# Altium schematic symbol library connectors.SchLib: 47 symbols
Pins are listed as number, name and electrical type; pins without a type are passive.

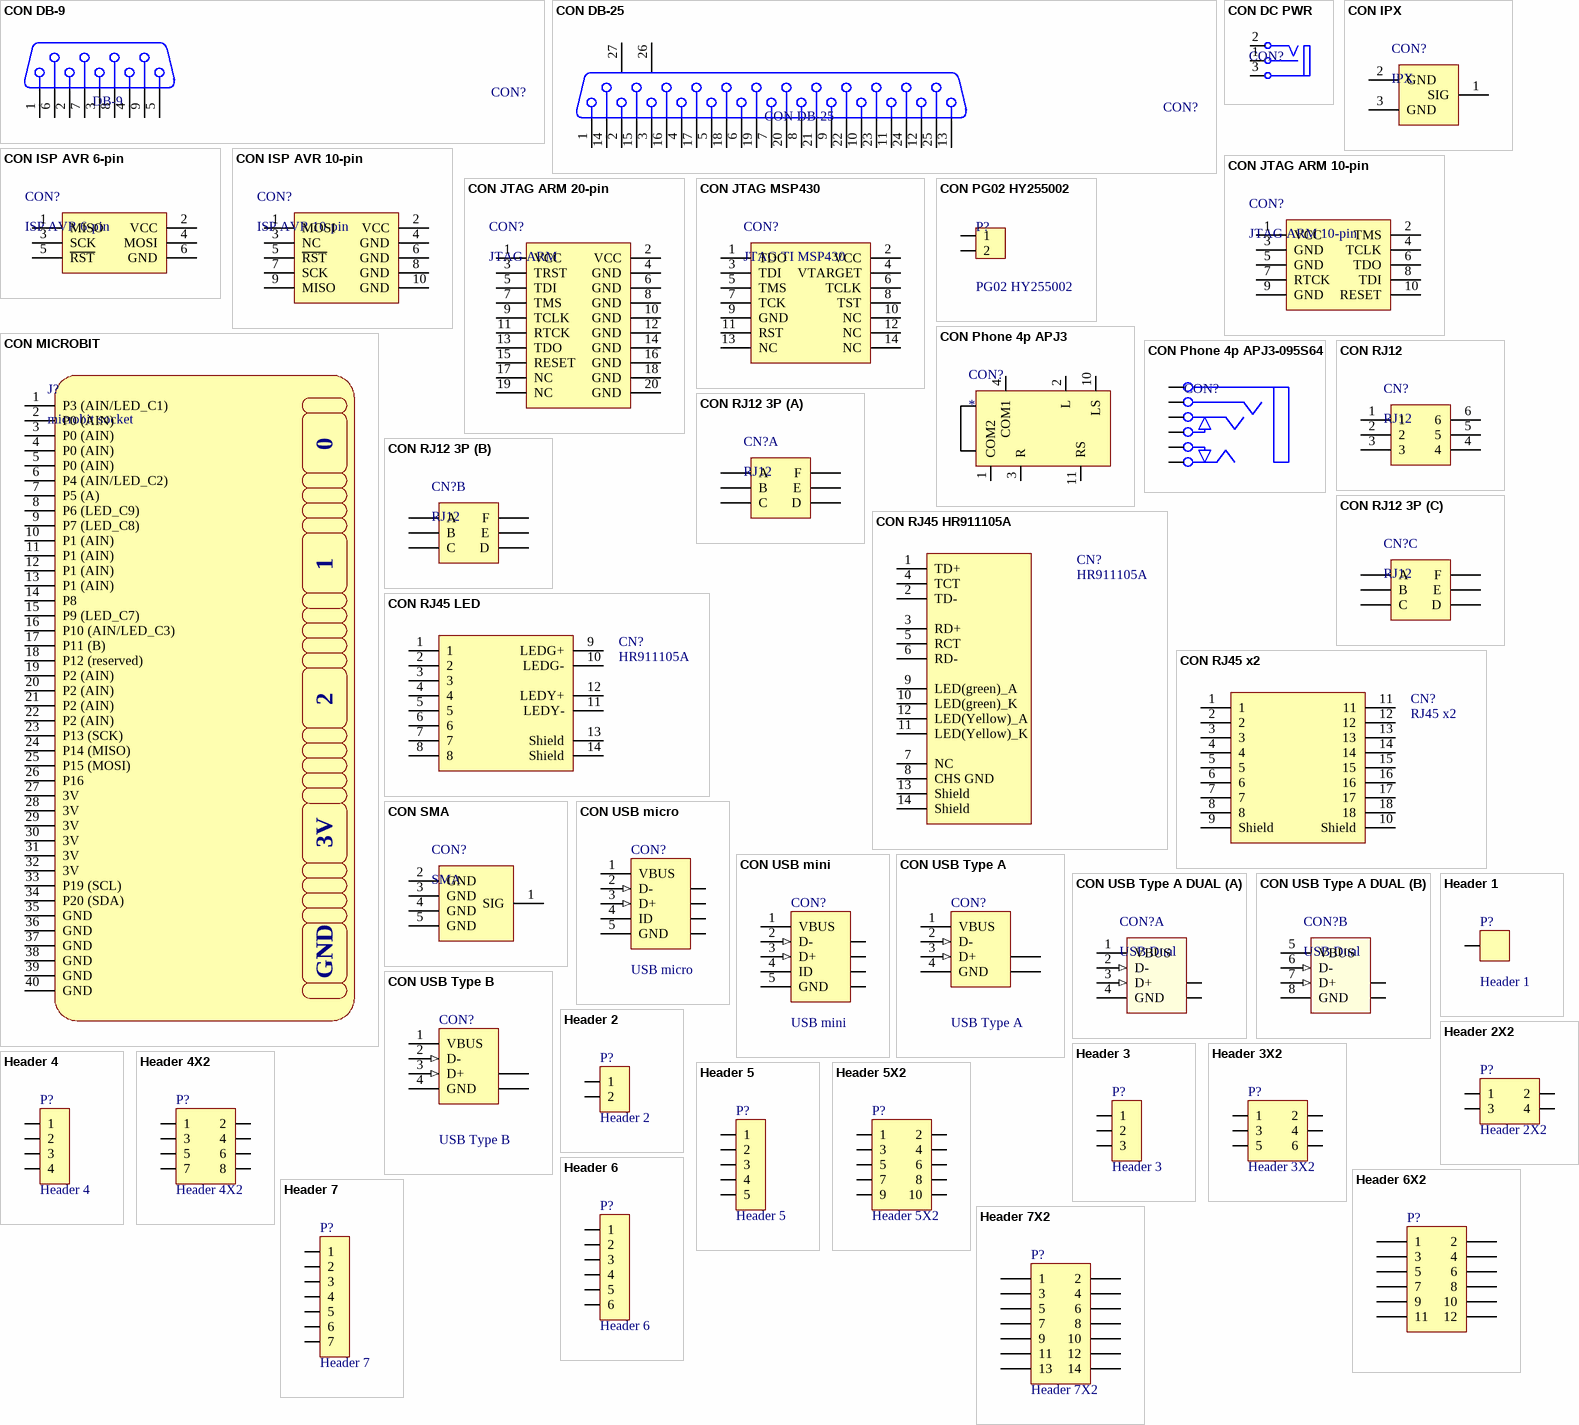
[diagram p0: symbols CON DB-9 to Header 7X2]

## CON DB-9
designator CON?, comment DB-9
Connector D-Sub 9
footprint CONN/DB9/FEMALE
pins: 1, 2, 3, 4, 5, 6, 7, 8, 9

## CON DB-25
designator CON?
Connector D-Sub 25
footprint CONN/DB25/Female (LPT FMALE - D Subminiature; 25 Position; Right Angle; Pitch 1.385 mm)
footprint CONN/DB25/Male (LPT MALE D Subminiature; 25 Position; Right Angle; Pitch 1.385 mm)
pins: 1, 2, 3, 4, 5, 6, 7, 8, 9, 10, 11, 12, 13, 14, 15, 16, 17, 18, 19, 20, 21, 22, 23, 24, 25, 26 MH1, 27 MH2

## CON DC PWR
designator CON?
DC input connector
footprint CONN/DC/PWR/3.5mm
footprint CONN/DC/PWR/5.0MM
pins: 1 S (power) "Sleeve (Ground)", 2 T "Tip Normal (Break Contact)", 3 TN "Tip"

## CON IPX
designator CON?, comment IPX
footprint CONN/IPX/SMD
pins: 1 SIG, 2 GND, 3 GND

## CON ISP AVR 6-pin
designator CON?, comment ISP AVR 6-pin
ISP AVR 6-pin interface
footprint HDR/Header/6/DL
footprint HDR/Header/6/DL/2mm
footprint HDR/Header/6/DL/BOX
footprint HDR/Header/6/DL/Box/RA
footprint HDR/Header/6/DL/BOX/TR
pins: 1 MISO, 2 VCC, 3 SCK, 4 MOSI, 5 ~{RST}, 6 GND

## CON ISP AVR 10-pin
designator CON?, comment ISP AVR 10-pin
ISP AVR 10-pin interface
footprint HDR/Header/10/DL/BOX (10 pins Male Box Header, IDC Socket)
footprint HDR/Header/10/DL/BOX/RA (10 pins Male Box Header right angle, IDC Socket)
pins: 1 MOSI, 2 VCC, 3 NC, 4 GND, 5 ~{RST}, 6 GND, 7 SCK, 8 GND, 9 MISO, 10 GND

## CON JTAG ARM 10-pin
designator CON?, comment JTAG ARM 10-pin
JTAG ARM 10-pin interface
footprint HDR/Header/10/DL/BOX (10 pins Male Box Header, IDC Socket)
footprint HDR/Header/10/DL/BOX/RA (10 pins Male Box Header right angle, IDC Socket)
pins: 1 VCC, 2 TMS, 3 GND, 4 TCLK, 5 GND, 6 TDO, 7 RTCK, 8 TDI, 9 GND, 10 RESET

## CON JTAG ARM 20-pin
designator CON?, comment JTAG ARM
JTAG ARM 20-pin interface
footprint HDR/Header/20/DL/BOX (20 pins Male Box Header, IDC Socket)
footprint HDR/Header/20/DL/BOX/RA (20 pins Male Box Header, IDC Socket)
pins: 1 VCC, 2 VCC, 3 TRST, 4 GND, 5 TDI, 6 GND, 7 TMS, 8 GND, 9 TCLK, 10 GND, 11 RTCK, 12 GND, 13 TDO, 14 GND, 15 RESET, 16 GND, 17 NC, 18 GND, 19 NC, 20 GND

## CON JTAG MSP430
designator CON?, comment JTAG TI MSP430
JTAG TI 14 pins for DSPs, MSPs
footprint HDR/Header/14/DL/BOX (14 pins Male Box Header, IDC Socket)
pins: 1 TDO, 2 VCC, 3 TDI, 4 VTARGET, 5 TMS, 6 TCLK, 7 TCK, 8 TST, 9 GND, 10 NC, 11 RST, 12 NC, 13 NC, 14 NC

## CON MICROBIT
designator J?, comment microbit socket
microbit socket 40 pins
footprint CONN/MIC127-140-A01
footprint CONN/MIC127-140-001
pins: 1 P3 (AIN/LED_C1), 2 P0 (AIN), 3 P0 (AIN), 4 P0 (AIN), 5 P0 (AIN), 6 P4 (AIN/LED_C2), 7 P5 (A), 8 P6 (LED_C9), 9 P7 (LED_C8), 10 P1 (AIN), 11 P1 (AIN), 12 P1 (AIN), 13 P1 (AIN), 14 P8, 15 P9 (LED_C7), 16 P10 (AIN/LED_C3), 17 P11 (B), 18 P12 (reserved), 19 P2 (AIN), 20 P2 (AIN), 21 P2 (AIN), 22 P2 (AIN), 23 P13 (SCK), 24 P14 (MISO), 25 P15 (MOSI), 26 P16, 27 3V, 28 3V, 29 3V, 30 3V, 31 3V, 32 3V, 33 P19 (SCL), 34 P20 (SDA), 35 GND, 36 GND, 37 GND, 38 GND, 39 GND, 40 GND
text: 0

## CON PG02 HY255002
designator P?, comment PG02 HY255002
Pogo 2-pin pitch 3.0 SMD
footprint CONN/HY255002
pins: 1, 2

## CON Phone 4p APJ3
designator CON?
Connector Stereo Phone 4 poles
footprint CONN/Phone/4P/SMD
pins: 1 COM2, 2 L, 3 R, 4 COM1, 10 LS, 11 RS

## CON Phone 4p APJ3-095S64
designator CON?, comment Phone Jack 4-pole APJ3-095S64  (value not drawn)
footprint CONN/Phone/4P/SMD
pins: 1, 2, 3, 4, 10, 11

## CON RJ12
designator CN?, comment RJ12
footprint CONN/RJ12
pins: 1, 2, 3, 4, 5, 6

## CON RJ12 3P
designator CN?, comment RJ12
footprint CONN/RJ12/3P
part A pins: 1 A, 2 B, 3 C, 4 D, 5 E, 6 F
part B pins: 7 A, 8 B, 9 C, 10 D, 11 E, 12 F
part C pins: 13 A, 14 B, 15 C, 16 D, 17 E, 18 F

## CON RJ45 HR911105A
designator CN?, comment HR911105A
Connector RJ45 HR911105A
footprint CONN/RJ45/HR911105A
pins: 1 TD+, 2 TD-, 3 RD+, 4 TCT, 5 RCT, 6 RD-, 7 NC, 8 CHS GND, 9 LED(green)_A, 10 LED(green)_K, 11 LED(Yellow)_K, 12 LED(Yellow)_A, 13 Shield, 14 Shield

## CON RJ45 LED
designator CN?, comment HR911105A
Connector RJ45 HR911105A
footprint CONN/RJ45/LED
pins: 1, 2, 3, 4, 5, 6, 7, 8, 9 LEDG+, 10 LEDG-, 11 LEDY-, 12 LEDY+, 13 Shield, 14 Shield

## CON RJ45 x2
designator CN?, comment RJ45 x2
Connector RJ45 X2
footprint CONN/RJ45/x2
pins: 1, 2, 3, 4, 5, 6, 7, 8, 9 Shield, 10 Shield, 11, 12, 13, 14, 15, 16, 17, 18

## CON SMA
designator CON?, comment SMA
SMA connectors
footprint CONN/SMA (Connector; RF Coaxial, MCX, Thru-Hole; 5 Position; Right Angle)
footprint CONN/SMA/EdgePCB (Connector; RF Coaxial, MCX, Thru-Hole; 5 Position; Right Angle)
footprint CONN/SMA/RA (Connector; RF Coaxial, MCX, Thru-Hole; 5 Position; Right Angle)
pins: 1 SIG, 2 GND, 3 GND, 4 GND, 5 GND

## CON USB micro
designator CON?, comment USB micro
USB micro, 5 pins
footprint CONN/USB/MICRO/RA
footprint CONN/USB/MICRO/RA/H
pins: 1 VBUS (power) "Power", 2 D- (in) "-DATA", 3 D+ (in) "+DATA", 4 ID, 5 GND (power) "Ground", 6 SHLD "Shield", 7 SHLD "Shield", 8 SHLD "Shield", 9 SHLD "Shield"

## CON USB mini
designator CON?, comment USB mini
USB mini type B, 5 pins
footprint CONN/USB/Mini/DIP/RA (Connector; USB2.0, Type B, SM; 5 Position; Right Angle)
footprint CONN/USB/Mini/SMD/RA (Connector; USB2.0, Type B, SM; 5 Position; Right Angle)
pins: 1 VBUS (power) "Power", 2 D- (in) "-DATA", 3 D+ (in) "+DATA", 4 ID, 5 GND (power) "Ground", 6 SHLD "Shield", 7 SHLD "Shield", 8 SHLD "Shield", 9 SHLD "Shield"

## CON USB Type A
designator CON?, comment USB Type A
USB type A, 4 pins
footprint CONN/USB/A/FEMALE/RA
footprint CONN/USB/A/MALE/RA
pins: 1 VBUS (power) "Power", 2 D- (in) "-DATA", 3 D+ (in) "+DATA", 4 GND (power) "Ground", 5 SHLD "Shield", 6 SHLD "Shield"

## CON USB Type A DUAL
designator CON?, comment USB Dual
CONN USB 2.0 R/A DL FMALE TYPE A; PART NO: AU-Y1008-2-R; BRAND: Assmann WSW Components; PACKAGE: CONN USB 2.0 R/A DL FMALE TYPE A; STOCK CODE: AE10334-ND; SUPPLIER: Digi-Key; TYPE: MI
footprint CONN/USB/A/FMALE/DL/RA (USB 2.0 R/A Dual FMALE TYPE A)
part A pins: 1 VBUS, 2 D- (in), 3 D+ (in), 4 GND, 9 SHLD, 10 SHLD
part B pins: 5 VBUS, 6 D- (in), 7 D+ (in), 8 GND, 11 SHLD, 12 SHLD

## CON USB Type B
designator CON?, comment USB Type B
USB type B, 4 pins
footprint CONN/USB/B/RA
pins: 1 VBUS (power) "Power", 2 D- (in) "-DATA", 3 D+ (in) "+DATA", 4 GND (power) "Ground", 5 SHLD "Shield", 6 SHLD "Shield"

## Header 1
designator P?
Header, 1-Pin
footprint HDR/Header/1
footprint HDR/Terminal/1 (Header 1, 1 pin, hight 300mil, Pin to Pin 200, Colour Green)
footprint HDR/Terminal/1/copper/6.0 (Header 1, 1 pin,)
footprint HDR/Terminal/1/copper/9.0 (Header 1, 1 pin,)
footprint HDR/Terminal/1/copper/8.8 (Header 1, 1 pin,)
footprint HDR/Terminal/1/copper/7.5 (Header 1, 1 pin,)
footprint HDR/Terminal/1/screw
pins: 1

## Header 2
designator P?
Header, 2-Pin
footprint HDR/Header/2
footprint HDR/Header/2/2mm
footprint HDR/Header/2/BOX
footprint HDR/Terminal/2 (Header 2, 2 pin, hight 400mil, Pin to Pin 200mil, Colour Green)
footprint HDR/Terminal/2/4mm
footprint HDR/Terminal/2/5mm (Header 2, 2 pin, hight 400mil, Pin to Pin 200mil, Colour Green)
footprint HDR/Terminal/2/5mm/RA (Header 2, 2 pin, hight 300mil, Pin to Pin 200, Colour Green)
footprint HDR/Terminal/2/300
footprint HDR/Terminal/2/400
footprint HDR/Terminal/2/RA (Header 2, 2 pin, hight 300mil, Pin to Pin 200, Colour Green)
footprint HDR/Terminal/2/3.5mm
footprint HDR/Header/2/VH
footprint HDR/Header/2/2mm/BOX/SMD
footprint HDR/Terminal/2/KF1000
footprint HDR/Terminal/2/KF55C-10
footprint HDR/Terminal/2/ELT950 (ELT950-9.5mm-2P)
footprint HDR/Header/2/BOX/RED
pins: 1, 2

## Header 2X2
designator P?
Header, 2-Pin, Dual row
footprint HDR/Header/4/DL
footprint HDR/5569-4.2/4/DL/RA (Header 6, 6 pin, hight 300mil, Pin to Pin 200, Colour Green)
pins: 1, 2, 3, 4

## Header 3
designator P?
Header, 3-Pin
footprint HDR/Header/3
footprint HDR/Header/3/2mm
footprint HDR/Header/3/BOX
footprint HDR/Terminal/3
footprint HDR/Terminal/3/4mm
footprint HDR/Terminal/3/400
footprint HDR/Terminal/3/RA (Header 3, 3 pin, hight 300mil, Pin to Pin 200, Colour Green)
footprint HDR/Header/3/VH
footprint HDR/Header/3/black
footprint HDR/Header/3/red
footprint HDR/Header/3/yellow
footprint HDR/Header/3/c1
pins: 1, 2, 3

## Header 3X2
designator P?
Header, 3-Pin, Dual row
footprint HDR/Header/6/DL
footprint HDR/Header/6/DL/BOX
footprint HDR/Header/6/DL/Box/RA
footprint HDR/Header/6/DL/BOX/TR
footprint HDR/Header/6/DL/2mm
footprint HDR/5569-4.2/6/DL/RA (Header 6, 6 pin, hight 300mil, Pin to Pin 200, Colour Green)
pins: 1, 2, 3, 4, 5, 6

## Header 4
designator P?
Header, 4-Pin
footprint HDR/Header/4
footprint HDR/Header/4/2mm
footprint HDR/Header/4/BOX
footprint HDR/Terminal/4
footprint HDR/Terminal/4/RA (Header 4, 4 pin, hight 300mil, Pin to Pin 200, Colour Green)
footprint HDR/Header/4/BOX/SMD
footprint HDR/Header/4/2mm/BOX/SMD
footprint HDR/Header/4/VH
footprint HDR/Header/4/2mm/BOX
footprint HDR/Header/4/2mm/BOX/RA
footprint HDR/Header/4/BOX/RA
footprint HDR/Header/4/BOX/RED
footprint HDR/Header/4/BOX/WHITE
footprint HDR/HW4-SMD-2-0
footprint HDR/HW4-SMD-2-0-90D
pins: 1, 2, 3, 4

## Header 4X2
designator P?
Header, 4-Pin, Dual row
footprint HDR/Header/8/DL
footprint HDR/Header/8/DL/SMD
footprint HDR/5569-4.2/8/DL/RA (Header 6, 6 pin, hight 300mil, Pin to Pin 200, Colour Green)
pins: 1, 2, 3, 4, 5, 6, 7, 8

## Header 5
designator P?
Header, 5-Pin
footprint HDR/Header/5
footprint HDR/Header/5/2mm
footprint HDR/Header/5/BOX
footprint HDR/Terminal/5/RA
footprint HDR/Header/5/VH
pins: 1, 2, 3, 4, 5

## Header 5X2
designator P?
Header, 5-Pin, Dual row
footprint HDR/Header/10/DL
footprint HDR/Header/10/DL/BOX (10 pins Male Box Header, IDC Socket)
footprint HDR/Header/10/DL/BOX/RA (10 pins Male Box Header right angle, IDC Socket)
footprint HDR/5569-4.2/10/DL/RA (Header 6, 6 pin, hight 300mil, Pin to Pin 200, Colour Green)
pins: 1, 2, 3, 4, 5, 6, 7, 8, 9, 10

## Header 6
designator P?
Header, 6-Pin
footprint HDR/Header/6
footprint HDR/Header/6/2mm
footprint HDR/Header/6/BOX
footprint HDR/Terminal/6
footprint HDR/TERMINAL/6/375
footprint HDR/Terminal/6/RA (Header 6, 6 pin, hight 300mil, Pin to Pin 200, Colour Green)
footprint HDR/Header/6/VH
pins: 1, 2, 3, 4, 5, 6

## Header 6X2
designator P?
Header, 6-Pin, Dual row
footprint HDR/5569-4.2/12/DL/RA (Header 6, 6 pin, hight 300mil, Pin to Pin 200, Colour Green)
pins: 1, 2, 3, 4, 5, 6, 7, 8, 9, 10, 11, 12

## Header 7
designator P?
Header, 7-Pin
footprint HDR/Header/7
footprint HDR/Header/7/2mm
pins: 1, 2, 3, 4, 5, 6, 7

## Header 7X2
designator P?
Header, 7-Pin, Dual row
footprint HDR/Header/14/DL/BOX (14 pins Male Box Header, IDC Socket)
pins: 1, 2, 3, 4, 5, 6, 7, 8, 9, 10, 11, 12, 13, 14

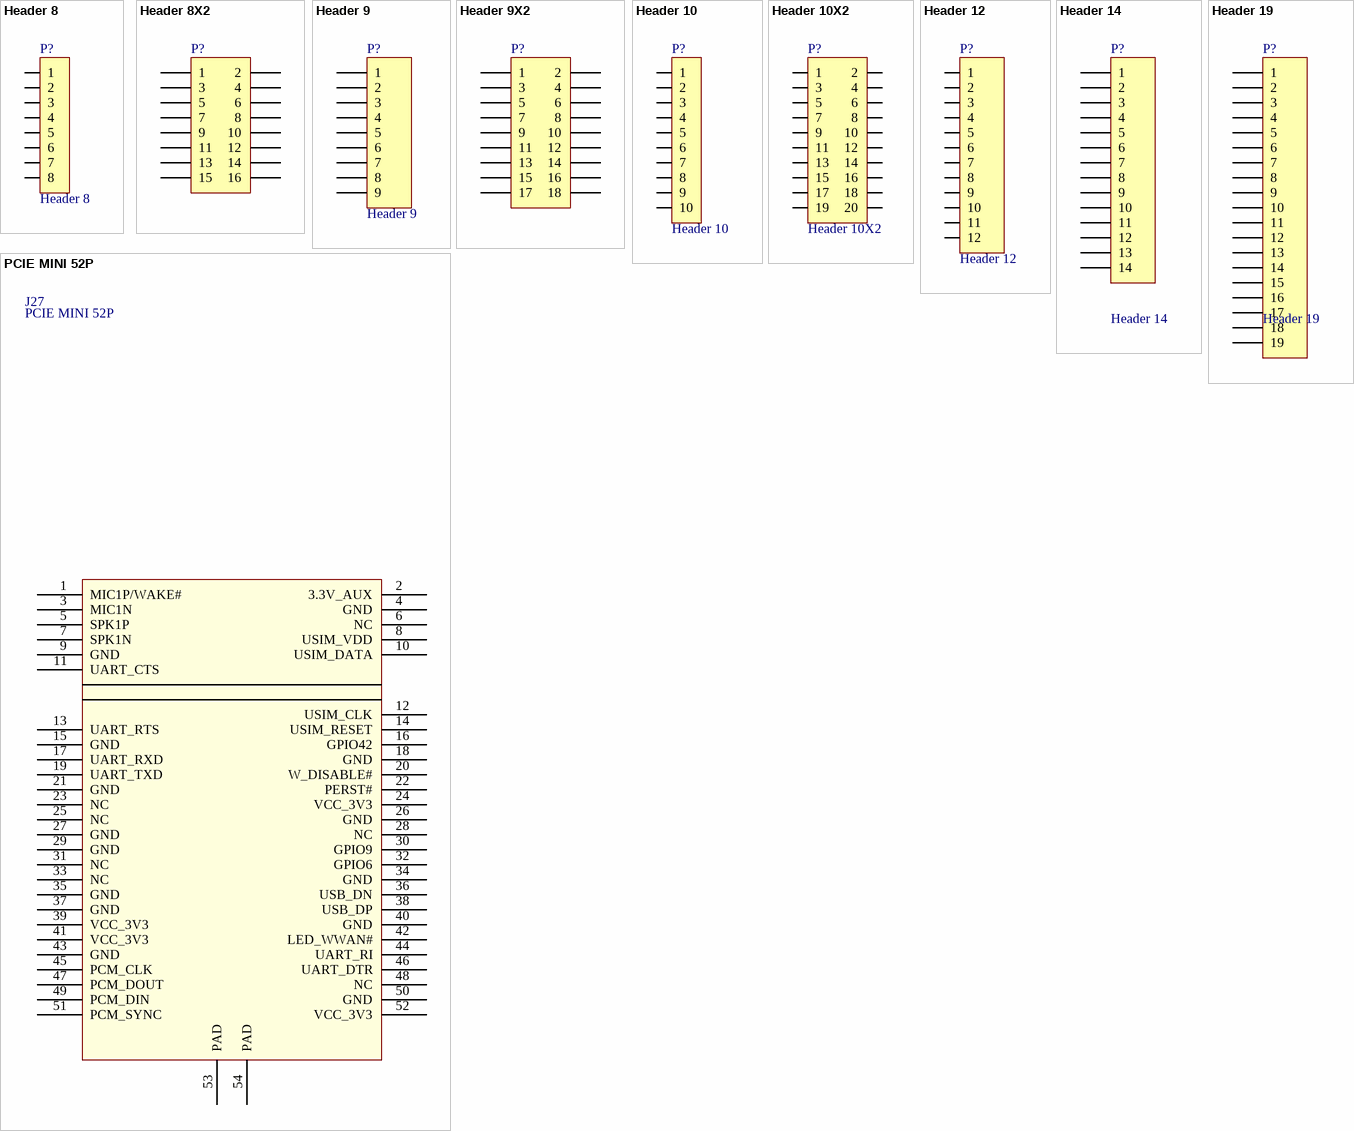
[diagram p1: symbols Header 8 to PCIE MINI 52P]

## Header 8
designator P?
Header, 8-Pin
footprint HDR/Header/8
footprint HDR/Header/8/2mm
footprint HDR/TERMINAL/8/375
pins: 1, 2, 3, 4, 5, 6, 7, 8

## Header 8X2
designator P?
Header, 8-Pin, Dual row
footprint HDR/Header/16/DL
footprint HDR/Header/16/DL/EDGE
pins: 1, 2, 3, 4, 5, 6, 7, 8, 9, 10, 11, 12, 13, 14, 15, 16

## Header 9
designator P?
Header, 9-Pin
footprint HDR/Header/9
footprint HDR/Header/9/2mm
pins: 1, 2, 3, 4, 5, 6, 7, 8, 9

## Header 9X2
designator P?
Header, 9-Pin, Dual row
pins: 1, 2, 3, 4, 5, 6, 7, 8, 9, 10, 11, 12, 13, 14, 15, 16, 17, 18

## Header 10
designator P?
Header, 10-Pin
footprint HDR/Header/10
footprint HDR/Header/10/2mm
pins: 1, 2, 3, 4, 5, 6, 7, 8, 9, 10

## Header 10X2
designator P?
Header, 10-Pin, Dual row
footprint HDR/Header/20/DL
footprint HDR/Header/20/DL/BOX (20 pins Male Box Header, IDC Socket)
footprint HDR/Header/20/DL/BOX/RA (20 pins Male Box Header, IDC Socket)
footprint HDR/Header/20/DL/2mm
footprint HDR/Header/20/DL/2mm/F
pins: 1, 2, 3, 4, 5, 6, 7, 8, 9, 10, 11, 12, 13, 14, 15, 16, 17, 18, 19, 20

## Header 12
designator P?
Header, 12-Pin
footprint HDR/Header/12
pins: 1, 2, 3, 4, 5, 6, 7, 8, 9, 10, 11, 12

## Header 14
designator P?
Header, 14-Pin
footprint HDR/Header/14
footprint HDR/Header/14/BLACK
footprint HDR/Header/14/BLUE
footprint HDR/Header/14/GREEN
footprint HDR/Header/14/RED
footprint HDR/Header/14/WHITE
footprint HDR/Header/14/YELLOW
pins: 1, 2, 3, 4, 5, 6, 7, 8, 9, 10, 11, 12, 13, 14

## Header 19
designator P?
Header, 19-Pin
footprint HDR/Header/19
footprint HDR/Header/19/red
footprint HDR/Header/19/white
footprint HDR/Header/19/yellow
pins: 1, 2, 3, 4, 5, 6, 7, 8, 9, 10, 11, 12, 13, 14, 15, 16, 17, 18, 19

## PCIE MINI 52P
designator J27
footprint CONN/PCIE_MINI/52P
footprint CONN/PCIE_MINI/52P/MOLEX_0480995701
pins: 1 MIC1P/WAKE#, 2 3.3V_AUX, 3 MIC1N, 4 GND, 5 SPK1P, 6 NC, 7 SPK1N, 8 USIM_VDD, 9 GND, 10 USIM_DATA, 11 UART_CTS, 12 USIM_CLK, 13 UART_RTS, 14 USIM_RESET, 15 GND, 16 GPIO42, 17 UART_RXD, 18 GND, 19 UART_TXD, 20 W_DISABLE#, 21 GND, 22 PERST#, 23 NC, 24 VCC_3V3, 25 NC, 26 GND, 27 GND, 28 NC, 29 GND, 30 GPIO9, 31 NC, 32 GPIO6, 33 NC, 34 GND, 35 GND, 36 USB_DN, 37 GND, 38 USB_DP, 39 VCC_3V3, 40 GND, 41 VCC_3V3, 42 LED_WWAN#, 43 GND, 44 UART_RI, 45 PCM_CLK, 46 UART_DTR, 47 PCM_DOUT, 48 NC, 49 PCM_DIN, 50 GND, 51 PCM_SYNC, 52 VCC_3V3, 53 PAD, 54 PAD